# Altium footprint library TS53YL101MR10.PcbLib: 1 footprints
Each footprint in its own frame and in the unit in brackets; x right, y up, seen from the top. Pads: shape width x height; smd on the part's side, far side on the other; paste and mask are expansions set on the pad; w line width, h text height; cw(c..) or ccw(c..) is an arc to the next point about the centre after c.
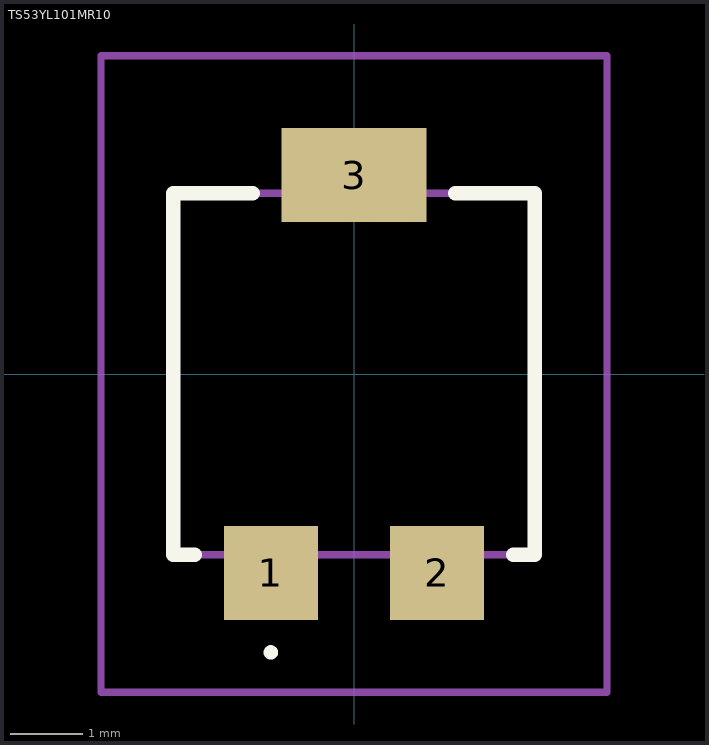
[diagram p0: the footprint, top view; thin cyan lines are the x and y axes]

## TS53YL101MR10 [mm]
pads (3):
  rect 1.3x1.3 smd: 1(-1.15,-2.75) 2(1.15,-2.75)
  rect 2x1.3 smd: 3(0,2.75)
Top Overlay:
  lines w0.1: -1.15,-3.9 cw(c-1.15,-3.85) -1.15,-3.8 ; -1.15,-3.9 -1.15,-3.9 ; -1.15,-3.9 ccw(c-1.15,-3.85) -1.15,-3.8 ; -1.15,-3.8 -1.15,-3.8
  lines w0.2: -2.2,-2.5 -2.5,-2.5 -2.5,2.5 -1.4,2.5 ; 1.4,2.5 2.5,2.5 2.5,-2.5 2.2,-2.5
Mechanical 15:
  lines w0.1: -2.5,-2.5 2.5,-2.5 2.5,2.5 -2.5,2.5 -2.5,-2.5
Mechanical 20:
  lines w0.1: -3.5,-4.4 3.5,-4.4 3.5,4.4 -3.5,4.4 -3.5,-4.4